# Altium schematic symbol library CAP 33nF 50V.Schlib: 1 symbol
Pins are listed as number, name and electrical type; pins without a type are passive.

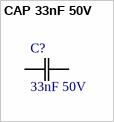
[diagram p0: symbol CAP 33nF 50V]

## CAP 33nF 50V
designator C?, comment 33nF 50V
CAP CER 0.033UF 50V X7R 0805; Tolerance: 5%; Package: 0805; Value: 33nF; Rating: 50V
footprint 0805
pins: 1 C1, 2 C2